# Altium footprint library Connector.PcbLib: 47 footprints (part 2 of 3)
Each footprint in its own frame and in the unit in brackets; x right, y up, seen from the top. Pads: shape width x height; smd on the part's side, far side on the other; paste and mask are expansions set on the pad; w line width, h text height; cw(c..) or ccw(c..) is an arc to the next point about the centre after c.
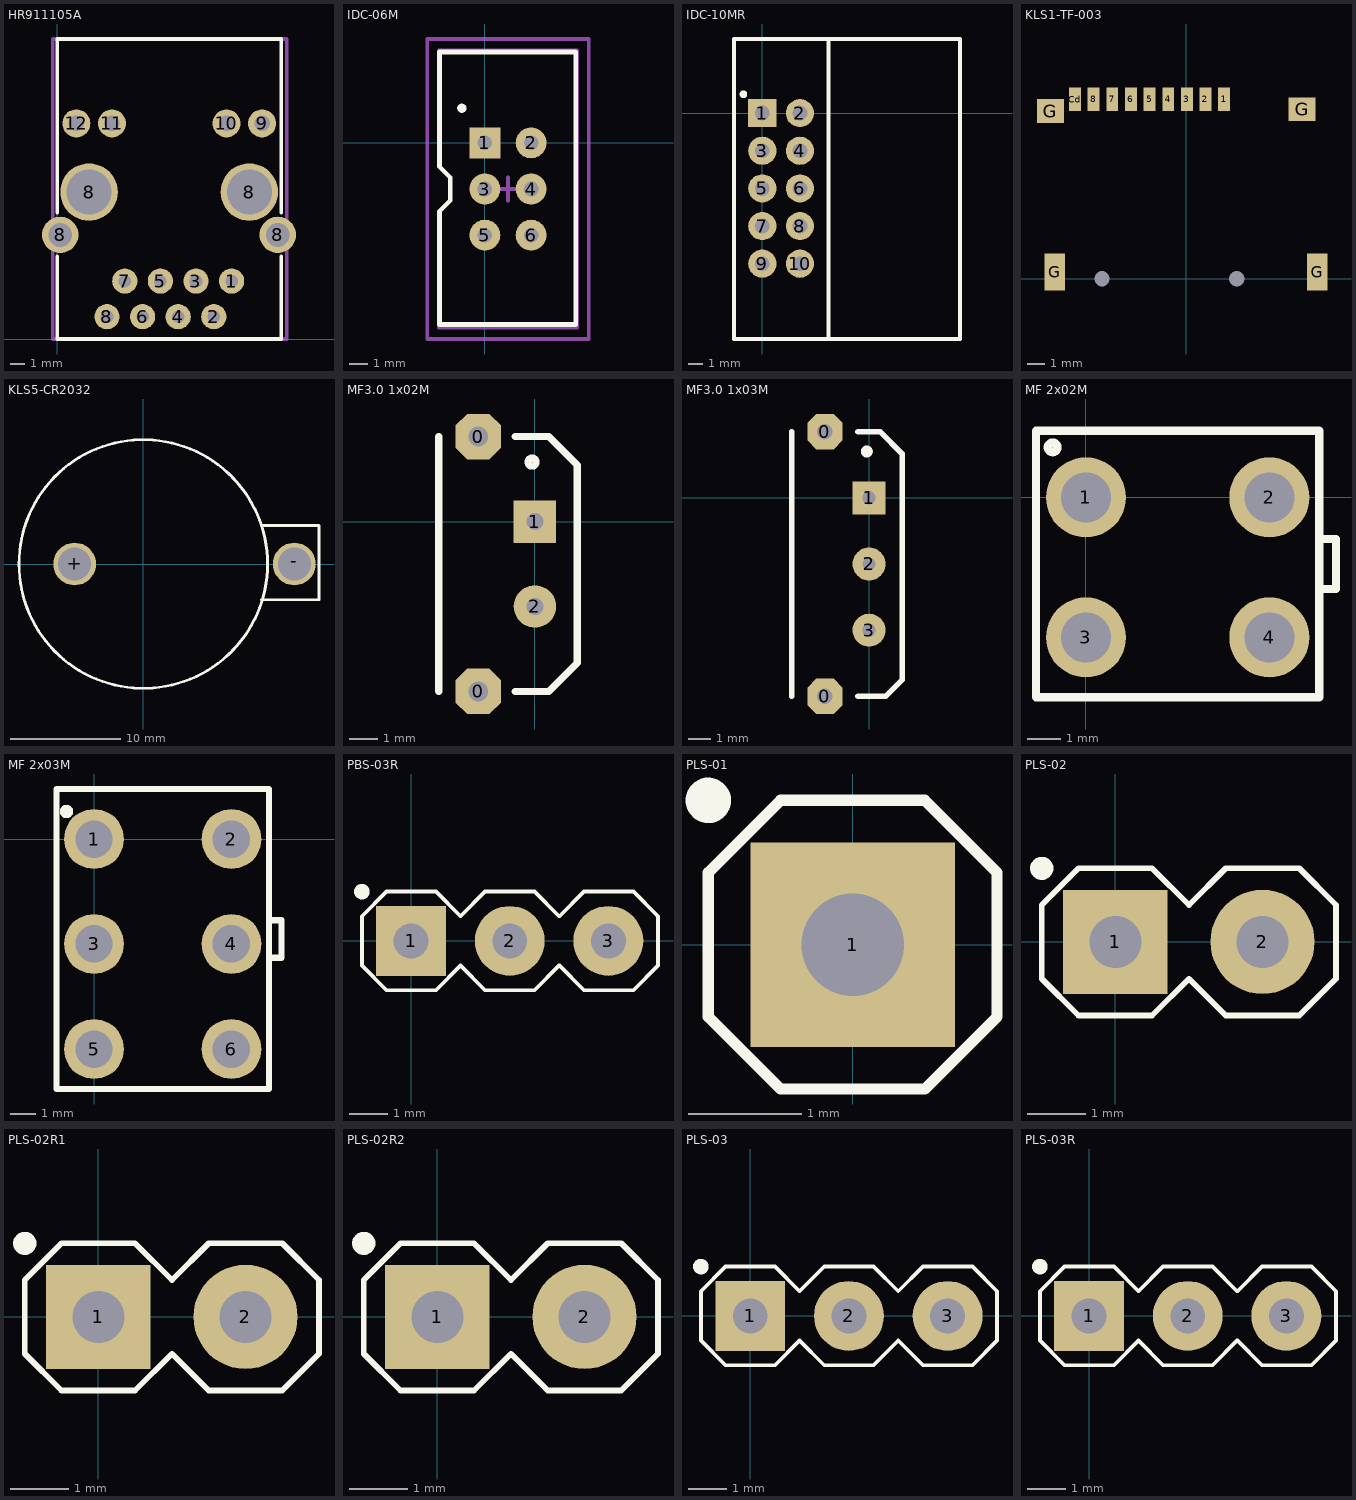
[diagram p1: the footprints below, top view; thin cyan lines are the x and y axes]

## HR911105A [mm] "Magjack"
height 13.5
pads (16):
  round 1.8 hole 0.9: 1(12.45,4.13) 2(11.18,1.59) 3(9.91,4.13) 4(8.64,1.59) 5(7.37,4.13) 6(6.1,1.59) 7(4.83,4.13) 8(3.56,1.59)
  round 2.6 hole 1.7: 8(0.225,7.43) 8(15.745,7.43)
  round 4.1 hole 3.2: 8(2.285,10.48) 8(13.715,10.48)
  round 2 hole 1.1: 9(14.625,15.38) 10(12.085,15.38) 11(3.915,15.38) 12(1.375,15.38)
Top Overlay:
  lines w0.254: 0,5.9 0,0 1.5,0 14.9,0 16,0 16,5.9 ; 0,9 0,21.4 16,21.4 16,9
Mechanical 13:
  lines w0.254: -0.3,0 16.4,0 16.4,0.9 16.4,21.4 -0.3,21.4 -0.3,0
Mechanical 15:
  lines w0.254: -0.3,0 16.4,0 16.4,0.9 16.4,21.4 -0.3,21.4 -0.3,0
3D body: height 13.5, standoff 0.1, extent -0.3,0 16.4,21.4

## IDC-06M [mm]
pads (6):
  rect 1.7x1.7 hole 0.8: 1(0,0)
  round 1.7 hole 0.8: 2(2.54,0) 3(0,-2.54) 4(2.54,-2.54) 5(0,-5.08) 6(2.54,-5.08)
Top Overlay:
  circle w0.254: c-1.27,1.905 r0.127
  lines w0.254: -2.5,-10 5,-10 5,5 -2.5,5 -2.5,-1.31 -1.905,-1.905 -1.905,-3.175 -2.5,-3.77 -2.5,-10
Mechanical 13:
  lines w0.2: -2.54,-10.16 5.08,-10.16 5.08,5.08 -2.54,5.08 -2.54,-1.27 -1.905,-1.905 -1.905,-3.175 -2.54,-3.81 -2.54,-10.16
Mechanical 15:
  lines w0.2: 0.635,-2.54 1.27,-2.54 ; 1.27,-3.175 1.27,-2.54 ; 1.27,-1.905 1.27,-2.54 ; 1.905,-2.54 1.27,-2.54 ; -3.175,-10.795 -3.175,5.715 5.715,5.715 5.715,-10.795 -3.175,-10.795
3D body: height 0.6, standoff 0.1, extent -1.131,2.041 -0.135,3.039
3D body: height 8.4, standoff 0, extent 2.286,-5.334 2.794,-4.826
3D body: height 8.4, standoff 0, extent -0.254,-5.334 0.254,-4.826
3D body: height 8.4, standoff 0, extent 2.286,-2.794 2.794,-2.286
3D body: height 8.4, standoff 0, extent -0.254,-2.794 0.254,-2.286
3D body: height 8.4, standoff 0, extent 2.286,-0.254 2.794,0.254
3D body: height 8.4, standoff 0, extent -0.254,-0.254 0.254,0.254
3D body: height 0.5, standoff 0.1, extent -2.5,-10 5,5

## IDC-10MR [mm] "IDC 10 pin right connector"
pads (10):
  rect 1.9x1.9 hole 1: 1(0,0)
  round 1.9 hole 1: 2(2.54,0) 3(0,-2.54) 4(2.54,-2.54) 5(0,-5.08) 6(2.54,-5.08) 7(0,-7.62) 8(2.54,-7.62) 9(0,-10.16) 10(2.54,-10.16)
Top Overlay:
  circle w0.254: c-1.27,1.27 r0.127
  lines w0.254: 4.465,-15.24 4.465,5 ; -1.905,-15.24 -1.905,5 13.335,5 13.335,-15.24 -1.905,-15.24
3D body "IDC-10MR.stp": height 9.23, standoff -2.87, extent -0.36,-15.255 13.14,5.095

## KLS1-TF-003 [mm] "Micro SD Card Connector"
height 1.85
pads (15):
  rect 0.7x1.4 smd: 1(2.25,10.6) 2(1.15,10.6) 3(0.05,10.6) 4(-1.05,10.6) 5(-2.15,10.6) 6(-3.25,10.6) 7(-4.35,10.6) 8(-5.45,10.6) Cd(-6.55,10.6)
  rect 1.6x1.4 smd: G(-8,9.9) G(6.85,10)
  rect 1.2x2.2 smd: G(-7.75,0.4) G(7.75,0.4)
  round 0 hole 0.9: NC(-4.95,0) NC(3,0)

## KLS5-CR2032 [mm] "CR2032 battery holder"
height 8
pads (2):
  round 3.9 hole 3: +(-6.25,0) -(13.75,0)
Top Overlay:
  circle w0.254: c0,0 r11.319
  lines w0.254: 10.75,-3.25 12,-3.25 16,-3.25 16,3.5 11.75,3.5 10.75,3.5
3D body "KLS5-CR2032.stp": height 9.71, standoff -3.5, extent -11.45,-11.45 16.05,11.45

## MF3.0 1x02M [mm]
pads (4):
  oct 1.6x1.6 hole 0.7: 0(-2,-6) 0(-2,3)
  rect 1.5x1.5 hole 0.6: 1(0,0)
  round 1.5 hole 0.6: 2(0,-3)
Top Overlay:
  circle w0.254: c-0.1,2.1 r0.141
  lines w0.254: -3.4,-6 -3.4,3 ; -0.7,-6 0.5,-6 1.5,-5 1.5,2 0.5,3 -0.7,3

## MF3.0 1x03M [mm]
pads (5):
  oct 1.6x1.6 hole 0.7: 0(-2,-9) 0(-2,3)
  rect 1.5x1.5 hole 0.6: 1(0,0)
  round 1.5 hole 0.6: 2(0,-3) 3(0,-6)
Top Overlay:
  circle w0.254: c-0.1,2.1 r0.141
  lines w0.254: -3.5,-9 -3.5,3 ; -0.5,-9 0.75,-9 1.5,-8.25 1.5,2 0.5,3 -0.5,3

## MF 2x02M [mm]
pads (4):
  round 2.4 hole 1.5: 1(0,0) 2(5.5,0) 3(0,-4.2) 4(5.5,-4.2)
Top Overlay:
  circle w0.254: c-1,1.5 r0.141
  lines w0.254: 7,-2.75 7.5,-2.75 7.5,-1.25 7,-1.25 ; -1.5,-6 7,-6 7,2 -1.5,2 -1.5,-6
3D body "Con_MF-2x02MA.step": height 13, standoff -3.3, extent -2.05,-7.25 8.95,2.75

## MF 2x03M [mm]
pads (6):
  round 2.4 hole 1.5: 1(0,0) 2(5.5,0) 3(0,-4.2) 4(5.5,-4.2) 5(0,-8.4) 6(5.5,-8.4)
Top Overlay:
  circle w0.254: c-1.1,1.1 r0.141
  lines w0.254: 7,-4.75 7.5,-4.75 7.5,-3.25 7,-3.25 ; -1.5,-10 -1.5,2 7,2 7,-10 -1.5,-10
3D body "Con_MF-2x03MA.step": height 13, standoff -3.3, extent -2.025,-11.475 8.975,2.725

## PBS-03R [mm] "вилка на плату"
height 5
pads (3):
  rect 1.8x1.8 hole 0.9: 1(0,0)
  round 1.8 hole 0.9: 2(2.54,0) 3(5.08,0)
Top Overlay:
  circle w0.2: c-1.27,1.27 r0.1
  lines w0.1: 3.81,-0.635 3.175,-1.27 1.905,-1.27 1.27,-0.635 0.635,-1.27 -0.635,-1.27 -1.27,-0.635 -1.27,0.635 -0.635,1.27 0.635,1.27 1.27,0.635 1.905,1.27 3.175,1.27 3.81,0.635 ; 3.82,-0.635 4.455,-1.27 5.725,-1.27 6.36,-0.635 6.36,0.635 ; 3.82,0.635 4.455,1.27 5.725,1.27 6.36,0.635 ; 6.35,0.645 6.36,0.635
3D body "PBS-03R.stp": height 3.37, standoff -2.37, extent -1.27,-0.3 6.35,9.5

## PLS-01 [mm] "вилка на плату"
height 8.5
pads (1):
  rect 1.8x1.8 hole 0.9: 1(0,0)
Top Overlay:
  circle w0.2: c-1.27,1.27 r0.1
  lines w0.1: -1.27,-0.635 -0.635,-1.27 0.635,-1.27 1.27,-0.635 1.27,0.635 0.635,1.27 -0.635,1.27 -1.27,0.635 -1.27,-0.635
3D body "PLS-01.stp": height 8.5, standoff -3, extent -1.27,-1.25 1.27,1.25

## PLS-02 [mm] "вилка на плату"
height 8.5
pads (2):
  rect 1.8x1.8 hole 0.9: 1(0,0)
  round 1.8 hole 0.9: 2(2.54,0)
Top Overlay:
  circle w0.2: c-1.27,1.27 r0.1
  lines w0.1: -1.27,-0.635 -1.27,0.635 -0.635,1.27 0.635,1.27 1.27,0.635 1.905,1.27 3.175,1.27 3.81,0.635 3.81,-0.635 3.175,-1.27 1.905,-1.27 1.27,-0.635 0.635,-1.27 -0.635,-1.27 -1.27,-0.635
3D body "PLS-02.stp": height 8.6, standoff -2.9, extent -1.27,-1.25 3.811,1.25

## PLS-02R1 [mm] "вилка на плату"
height 5
pads (2):
  rect 1.8x1.8 hole 0.9: 1(0,0)
  round 1.8 hole 0.9: 2(2.54,0)
Top Overlay:
  circle w0.2: c-1.27,1.27 r0.1
  lines w0.1: -1.27,-0.635 -0.635,-1.27 0.635,-1.27 1.27,-0.635 1.905,-1.27 3.175,-1.27 3.81,-0.635 3.81,0.635 3.175,1.27 1.905,1.27 1.27,0.635 0.635,1.27 -0.635,1.27 -1.27,0.635 -1.27,-0.635
3D body "PLS-02R.stp": height 6.1, standoff -2.9, extent -1.27,-6 3.811,1.25

## PLS-02R2 [mm] "вилка на плату"
height 5
pads (2):
  rect 1.8x1.8 hole 0.9: 1(0,0)
  round 1.8 hole 0.9: 2(2.54,0)
Top Overlay:
  circle w0.2: c-1.27,1.27 r0.1
  lines w0.1: -1.27,-0.635 -1.27,0.635 -0.635,1.27 0.635,1.27 1.27,0.635 1.905,1.27 3.175,1.27 3.81,0.635 3.81,-0.635 3.175,-1.27 1.905,-1.27 1.27,-0.635 0.635,-1.27 -0.635,-1.27 -1.27,-0.635
3D body "PLS-02R.stp": height 6.1, standoff -2.9, extent -1.271,-1.25 3.81,6

## PLS-03 [mm] "вилка на плату"
height 8.5
pads (3):
  rect 1.8x1.8 hole 0.9: 1(0,0)
  round 1.8 hole 0.9: 2(2.54,0) 3(5.08,0)
Top Overlay:
  circle w0.2: c-1.27,1.27 r0.1
  lines w0.1: -1.27,-0.635 -0.635,-1.27 0.635,-1.27 1.27,-0.635 1.905,-1.27 3.175,-1.27 3.81,-0.635 4.445,-1.27 5.715,-1.27 6.35,-0.635 6.35,0.635 5.715,1.27 4.445,1.27 3.81,0.635 3.175,1.27 1.905,1.27 1.27,0.635 0.635,1.27 -0.635,1.27 -1.27,0.635 -1.27,-0.635
3D body "PLS-02.stp": height 8.6, standoff -2.9, extent -1.27,-1.25 3.811,1.25
3D body "PLS-01.stp": height 8.6, standoff -2.9, extent 3.81,-1.25 6.35,1.25

## PLS-03R [mm] "вилка на плату"
height 5
pads (3):
  rect 1.8x1.8 hole 0.9: 1(0,0)
  round 1.8 hole 0.9: 2(2.54,0) 3(5.08,0)
Top Overlay:
  circle w0.2: c-1.27,1.27 r0.1
  lines w0.1: 3.81,-0.635 3.175,-1.27 1.905,-1.27 1.27,-0.635 0.635,-1.27 -0.635,-1.27 -1.27,-0.635 -1.27,0.635 -0.635,1.27 0.635,1.27 1.27,0.635 1.905,1.27 3.175,1.27 3.81,0.635 ; 3.82,-0.635 4.455,-1.27 5.725,-1.27 6.36,-0.635 6.36,0.635 5.725,1.27 4.455,1.27 3.82,0.635
3D body "PLS-03R.stp": height 6.1, standoff -2.9, extent -1.27,-6 6.352,1.25